# Altium integrated library Diode.IntLib: 65 symbols
Pins are listed as number, name and electrical type; pins without a type are passive.

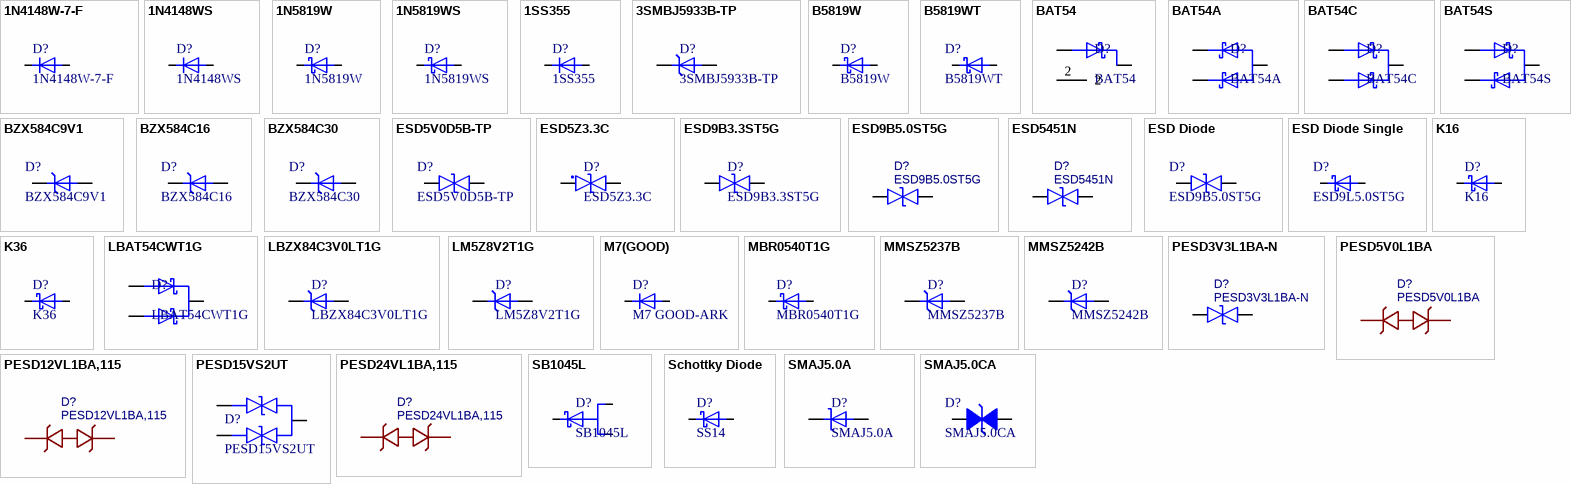
[diagram p0: symbols 1N4148W-7-F to SMAJ5.0CA]

## 1N4148W-7-F
designator D?
开关二极管
footprint D_SOD-123 (Molded Diode, 2-Leads, Body 3.71x1.60mm, IPC Medium Density)
pins: 1 K, 2 A

## 1N4148WS
designator D?
开关二极管 100V 150mA 1.25V@150mA T4
footprint D_SOD-323 (Molded Diode, 2-Leads, Body 2.65x1.30mm, IPC Medium Density)
footprint Model Name (Model Description)
footprint Model Name (Model Description)
footprint Model Name (Model Description)
pins: 1 K, 2 A

## 1N5819W
designator D?
肖特基二极管  40V 1A 900mV@3A
footprint D_SOD-123 (Molded Diode, 2-Leads, Body 3.71x1.60mm, IPC Medium Density)
pins: 1 K, 2 A

## 1N5819WS
designator D?
肖特基二极管  40V 1A 600mV@1A
footprint D_SOD-323 (Molded Diode, 2-Leads, Body 2.65x1.30mm, IPC Medium Density)
pins: 1 K, 2 A

## 1SS355
designator D?
开关二极管 80V 100mA 4ns
footprint D_SOD-323 (Molded Diode, 2-Leads, Body 2.65x1.30mm, IPC Medium Density)
pins: 1 K, 2 A

## 3SMBJ5933B-TP
designator D?
稳压二极管 22V，3W
footprint D_SMB/DO-214AA (Molded Diode, 2-Leads, Body 4.31x3.62mm, IPC Medium Density)
pins: 1 K, 2 A

## B5819W
designator D?
肖特基二极管
footprint D_SOD-123 (Molded Diode, 2-Leads, Body 3.71x1.60mm, IPC Medium Density)
pins: 1 K, 2 A

## B5819WT
designator D?
40V 1A 600mV@200mA
footprint D_SOD-523 (SODFL, 2-Leads, Body 0.80x1.60mm, IPC Medium Density)
pins: 1 K, 2 A

## BAT54
designator D?
Surface Mount Schottky Barrier Diode
footprint SOT-23 (SOT23, 3-Leads, Body 2.90x2.45mm, Pitch 0.95mm, IPC Medium Density)
pins: 1, 2, 3

## BAT54A
designator D?
Surface Mount Schottky Barrier Diode
footprint SOT-23 (SOT23, 3-Leads, Body 2.90x2.45mm, Pitch 0.95mm, IPC Medium Density)
pins: 1, 2, 3

## BAT54C
designator D?
Surface Mount Schottky Barrier Diode
footprint SOT-23 (SOT23, 3-Leads, Body 2.90x2.45mm, Pitch 0.95mm, IPC Medium Density)
pins: 1, 2, 3

## BAT54S
designator D?
Surface Mount Schottky Barrier Diode
footprint SOT-23 (SOT23, 3-Leads, Body 2.90x2.45mm, Pitch 0.95mm, IPC Medium Density)
pins: 1, 2, 3

## BZX584C9V1
designator D?
齐纳二极管 9.1V 200mW
footprint D_SOD-523 (SODFL, 2-Leads, Body 0.80x1.60mm, IPC Medium Density)
pins: 1 K, 2 A

## BZX584C16
designator D?
齐纳二极管 16V 200mW
footprint D_SOD-523 (SODFL, 2-Leads, Body 0.80x1.60mm, IPC Medium Density)
pins: 1 K, 2 A

## BZX584C30
designator D?
齐纳二极管 30V 200mW
footprint D_SOD-523 (SODFL, 2-Leads, Body 0.80x1.60mm, IPC Medium Density)
pins: 1 K, 2 A

## ESD5V0D5B-TP
designator D?
ESD 5V
footprint D_SOD-523-BI (SODFL, 2-Leads, Body 0.80x1.60mm, IPC Medium Density)
pins: 1, 2

## ESD5Z3.3C
designator D?
双向ESD 3.3V
footprint D_SOD-523-BI (SODFL, 2-Leads, Body 0.80x1.60mm, IPC Medium Density)
pins: 1, 2

## ESD9B3.3ST5G
designator D?
双向ESD 3.3V
footprint D_SOD-923_L0.8-W0.6-LS1.0-BI
pins: 1, 2

## ESD9B5.0ST5G
designator D?
双向ESD 5.8V; BOM_Manufacturer: ON; Contributor: LCSC; BOM_Supplier: LCSC; BOM_Manufacturer Part: ESD9B5.0ST5G; BOM_Supplier Part: C111566; spicePre: D; spiceSymbolName: ESD9B5.0ST5G
footprint D_SOD-923_L0.8-W0.6-LS1.0-BI
pins: 1, 2

## ESD5451N
designator D?
双向TVS管PESD5V0S1BBN/PESD3V3S1BA-N; BOM_Manufacturer: ON; BOM_Manufacturer Part: ESD9B5.0ST5G; Contributor: LCSC; BOM_Supplier: LCSC; BOM_Supplier Part: C111566; spicePre: D; spiceSymbolName: ESD9B5.0ST5G
footprint DFN1006-2L-BI
pins: 1, 2

## ESD Diode
designator D?, comment ESD9B5.0ST5G
双向ESD二极管
footprint D_SOD-923_L0.8-W0.6-LS1.0-BI
footprint DFN1006-2L-BI
pins: 1, 2

## ESD Diode Single
designator D?, comment ESD9L5.0ST5G
单向ESD二极管
footprint D_SOD-923_L0.8-W0.6-LS1.0
footprint DFN1006-2L
pins: 1 K, 2 A

## K16
designator D?
肖特基二极管  60V 1A 700mV@1A
footprint D_SOD-123FL (Molded Diode, 2-Leads, Body 3.71x1.60mm, IPC Medium Density)
pins: 1 K, 2 A

## K36
designator D?
肖特基二极管  60V 3A 700mV@3A
footprint D_SOD-123FL (Molded Diode, 2-Leads, Body 3.71x1.60mm, IPC Medium Density)
pins: 1 K, 2 A

## LBAT54CWT1G
designator D?
footprint SC-70-3 (SOTFL, 3-Leads, Body 2.00x2.20mm, Pitch 0.65mm, IPC Medium Density)
pins: 1, 2, 3

## LBZX84C3V0LT1G
designator D?
稳压二极管 3V 稳压值(范围)：2.8V~3.2V 功率：225mW
footprint SOT-23 (SOT23, 3-Leads, Body 2.90x2.45mm, Pitch 0.95mm, IPC Medium Density)
pins: 1 A, 2 NC hidden, 3 K

## LM5Z8V2T1G
designator D?
稳压管 7.7V~8.7V 功率：200mW
footprint D_SOD-523 (SODFL, 2-Leads, Body 0.80x1.60mm, IPC Medium Density)
pins: 1 K, 2 A

## M7(GOOD)
designator D?, comment M7 GOOD-ARK
通用二极管  1000V,1A,VF=1V@1A
footprint D_SOD-123 (Molded Diode, 2-Leads, Body 3.71x1.60mm, IPC Medium Density)
footprint D_SMA (Molded Diode, 2-Leads, Body 5.00x2.60mm, IPC Medium Density)
pins: 1 K, 2 A

## MBR0540T1G
designator D?
肖特基二极管 40V,0.5A,VF=0.51V@0.5A
footprint D_SOD-123 (Molded Diode, 2-Leads, Body 3.71x1.60mm, IPC Medium Density)
pins: 1 K, 2 A

## MMSZ5237B
designator D?
稳压管 8.2V Zener Voltage Regulator Diodes
footprint D_SOD-123 (Molded Diode, 2-Leads, Body 3.71x1.60mm, IPC Medium Density)
pins: 1 K, 2 A

## MMSZ5242B
designator D?
稳压管 12V Zener Voltage Regulator Diodes
footprint D_SOD-123 (Molded Diode, 2-Leads, Body 3.71x1.60mm, IPC Medium Density)
pins: 1 K, 2 A

## PESD3V3L1BA-N
designator D?
双向ESD 3.3V; BOM_Manufacturer: ON; BOM_Manufacturer Part: ESD9B5.0ST5G; Contributor: LCSC; BOM_Supplier: LCSC; BOM_Supplier Part: C111566; spicePre: D; spiceSymbolName: ESD9B5.0ST5G
footprint D_SOD-323-BI (Molded Diode, 2-Leads, Body 2.65x1.30mm, IPC Medium Density)
pins: 1, 2

## PESD5V0L1BA
designator D?
5V ESD SOD323; BOM_Manufacturer: Nexperia; BOM_Manufacturer Part: PESD12VL1BA,115; BOM_Supplier: LCSC; BOM_Supplier Part: C38558; BOM_JLCPCB Part Class: Extended Part; spicePre: D; spiceSymbolName: PESD12VL1BA,115
footprint D_SOD-323-BI (Molded Diode, 2-Leads, Body 2.65x1.30mm, IPC Medium Density)
footprint D_SOD-323-BI (Molded Diode, 2-Leads, Body 2.65x1.30mm, IPC Medium Density)
footprint D_SOD-323-BI (Molded Diode, 2-Leads, Body 2.65x1.30mm, IPC Medium Density)
pins: 1 C, 2 A

## PESD12VL1BA,115
designator D?
BOM_Manufacturer: Nexperia; BOM_Supplier: LCSC; BOM_Manufacturer Part: PESD12VL1BA,115; BOM_Supplier Part: C38558; BOM_JLCPCB Part Class: Extended Part; spicePre: D; spiceSymbolName: PESD12VL1BA,115
footprint D_SOD-323-BI (Molded Diode, 2-Leads, Body 2.65x1.30mm, IPC Medium Density)
pins: 1 C, 2 A

## PESD15VS2UT
designator D?
footprint SOT-23 (SOT23, 3-Leads, Body 2.90x2.45mm, Pitch 0.95mm, IPC Medium Density)
pins: 1, 2, 3

## PESD24VL1BA,115
designator D?
BOM_Manufacturer: Nexperia; Contributor: LCSC; BOM_Supplier: LCSC; BOM_Manufacturer Part: PESD24VL1BA,115; BOM_Supplier Part: C69324; BOM_JLCPCB Part Class: Extended Part; spicePre: D; spiceSymbolName: PESD24VL1BA,115
footprint D_SOD-323-BI (Molded Diode, 2-Leads, Body 2.65x1.30mm, IPC Medium Density)
pins: 1 C, 2 A

## SB1045L
designator D?
肖特基二极管  45V 10A 530mV@10A
footprint TO-277_3P-L5.4-W4.0-LS6.5-TR
pins: 1 A, 2 K, 3 A

## Schottky Diode
designator D?, comment SS14
肖特基二极管
pins: 1 K, 2 A

## SMAJ5.0A
designator D?
SMAJ5.0A  TVS
footprint D_SMA (Molded Diode, 2-Leads, Body 5.00x2.60mm, IPC Medium Density)
pins: 1 K, 2 A

## SMAJ5.0CA
designator D?
SMAJ5.0CA  TVS
footprint D_SMA (Molded Diode, 2-Leads, Body 5.00x2.60mm, IPC Medium Density)
pins: 1, 2

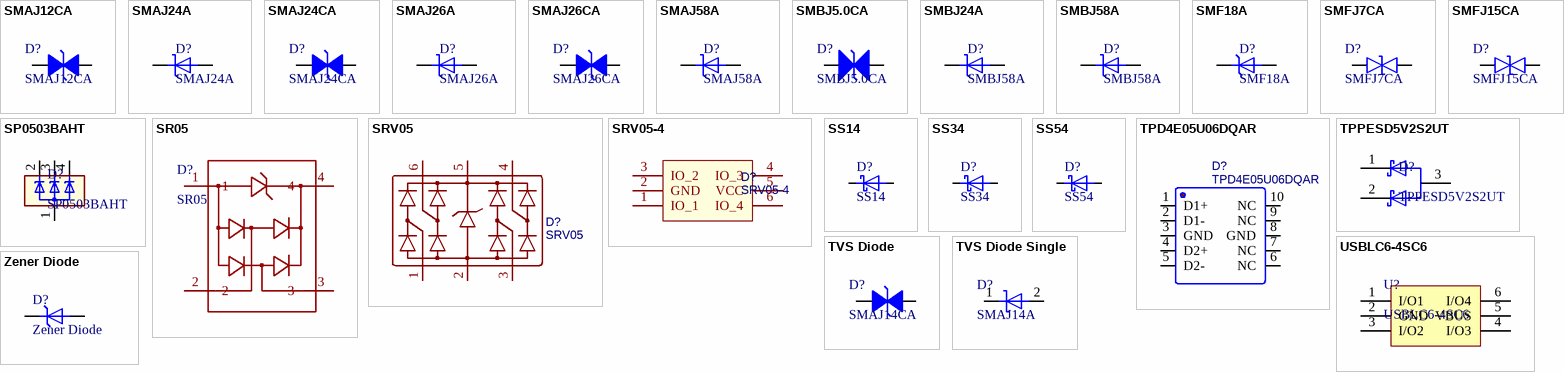
[diagram p1: symbols SMAJ12CA to Zener Diode]

## SMAJ12CA
designator D?
SMAJ12CA  TVS
footprint D_SMA (Molded Diode, 2-Leads, Body 5.00x2.60mm, IPC Medium Density)
pins: 1, 2

## SMAJ24A
designator D?
Surface mount TVS power 400 watts Stand-Off Voltage： 24V
footprint D_SMA (Molded Diode, 2-Leads, Body 5.00x2.60mm, IPC Medium Density)
pins: 1 K, 2 A

## SMAJ24CA
designator D?
SMAJ24CA  TVS
footprint D_SMA (Molded Diode, 2-Leads, Body 5.00x2.60mm, IPC Medium Density)
pins: 1, 2

## SMAJ26A
designator D?
Surface mount TVS power 400 watts Stand-Off Voltage： 26V
footprint D_SMA (Molded Diode, 2-Leads, Body 5.00x2.60mm, IPC Medium Density)
pins: 1 K, 2 A

## SMAJ26CA
designator D?
SMAJ26CA  TVS
footprint D_SMA (Molded Diode, 2-Leads, Body 5.00x2.60mm, IPC Medium Density)
pins: 1, 2

## SMAJ58A
designator D?
Surface mount TVS power 400 watts Stand-Off Voltage： 58V
footprint D_SMA (Molded Diode, 2-Leads, Body 5.00x2.60mm, IPC Medium Density)
pins: 1 K, 2 A

## SMBJ5.0CA
designator D?
SMBJ5.0CA  TVS
footprint D_SMB/DO-214AA (Molded Diode, 2-Leads, Body 4.31x3.62mm, IPC Medium Density)
pins: 1, 2

## SMBJ24A
designator D?, comment SMBJ58A
Surface mount TVS  Stand-Off Voltage：  24V
footprint D_SMB/DO-214AA (Molded Diode, 2-Leads, Body 4.31x3.62mm, IPC Medium Density)
pins: 1 K, 2 A

## SMBJ58A
designator D?
Surface mount TVS  Stand-Off Voltage： 58V
footprint D_SMB/DO-214AA (Molded Diode, 2-Leads, Body 4.31x3.62mm, IPC Medium Density)
pins: 1 K, 2 A

## SMF18A
designator D?
Surface mount TVS power 200 watts Stand-Off Voltage： 18V
footprint D_SOD-123FL (Molded Diode, 2-Leads, Body 3.71x1.60mm, IPC Medium Density)
pins: 1 K, 2 A

## SMFJ7CA
designator D?
footprint SOD-123S_L2.8-W1.8-LS3.7-BI
pins: 1, 2

## SMFJ15CA
designator D?
footprint SOD-123S_L2.8-W1.8-LS3.7-BI
pins: 1, 2

## SP0503BAHT
designator D?
TVS Diode Array, 5.5V Standoff, 3 Channels, SOT-143 package
footprint SOT-143 (SOT143, 4-Leads, Body 2.92x2.37mm, Pitch 1.90mm, IPC Medium Density)
pins: 1, 2, 3, 4

## SR05
designator D?
TVS 5V  USB
footprint SOT-143 (SOT143, 4-Leads, Body 2.90x2.37mm, Pitch 1.90mm, IPC Medium Density)
pins: 1, 2, 3, 4

## SRV05
designator D?
TVS; BOM_Manufacturer: TECH PUBLIC(台舟电子); BOM_Manufacturer Part: SRV05-4; Contributor: LCSC; BOM_Supplier: LCSC; BOM_Supplier Part: C558418; BOM_JLCPCB Part Class: Extended Part; spicePre: D; spiceSymbolName: SRV05-4_C558418
footprint SOT-23-6 (SOT23, 6-Leads, Body 2.90x2.80mm, Pitch 0.95mm, IPC Medium Density)
pins: 1, 2, 3, 4, 5, 6

## SRV05-4
designator D?
TVS; BOM_Manufacturer: TECH PUBLIC(台舟电子); Contributor: LCSC; BOM_Supplier: LCSC; BOM_Supplier Part: C558418; BOM_Manufacturer Part: SRV05-4; BOM_JLCPCB Part Class: Extended Part; spicePre: D; spiceSymbolName: SRV05-4_C558418
footprint SOT-23-6 (SOT23, 6-Leads, Body 2.90x2.80mm, Pitch 0.95mm, IPC Medium Density)
pins: 1 IO_1, 2 GND, 3 IO_2, 4 IO_3, 5 VCC, 6 IO_4

## SS14
designator D?
肖特基二极管 1A
footprint D_SMA (Molded Diode, 2-Leads, Body 5.00x2.60mm, IPC Medium Density)
pins: 1 K, 2 A

## SS34
designator D?
肖特基二极管 3A
footprint D_SMA (Molded Diode, 2-Leads, Body 5.00x2.60mm, IPC Medium Density)
footprint D_SMB/DO-214AA (Molded Diode, 2-Leads, Body 4.31x3.62mm, IPC Medium Density)
footprint D_SOD-123FL (Molded Diode, 2-Leads, Body 3.71x1.60mm, IPC Medium Density)
pins: 1 K, 2 A

## SS54
designator D?
肖特基二极管 5A
footprint D_SMA (Molded Diode, 2-Leads, Body 5.00x2.60mm, IPC Medium Density)
footprint D_SMB/DO-214AA (Molded Diode, 2-Leads, Body 4.31x3.62mm, IPC Medium Density)
footprint D_SOD-123FL (Molded Diode, 2-Leads, Body 3.71x1.60mm, IPC Medium Density)
pins: 1 K, 2 A

## TPD4E05U06DQAR
designator D?
适用于 USB、HDMI 和高速接口的四路 0.5pF、5.5V、±12kV ESD 保护二极管; BOM_Manufacturer: TI; Contributor: LCSC; BOM_Supplier: LCSC; BOM_Manufacturer Part: TPD4E05U06DQAR; BOM_Supplier Part: C138714; spicePre: D; spiceSymbolName: TPD4E05U06DQAR_C138714
footprint D_USON-10_L2.5-W1.0-P0.50-BL
pins: 1 D1+, 2 D1-, 3 GND, 4 D2+, 5 D2-, 6 NC, 7 NC, 8 GND, 9 NC, 10 NC

## TPPESD5V2S2UT
designator D?
TVS Diode Array
footprint SOT-23 (SOT23, 3-Leads, Body 2.90x2.45mm, Pitch 0.95mm, IPC Medium Density)
pins: 1, 2, 3

## TVS Diode
designator D?, comment SMAJ14CA
TVS静电和浪涌保护二极管
footprint D_SMB/DO-214AA - BI (Molded Diode, 2-Leads, Body 4.31x3.62mm, IPC Medium Density)
footprint D_SMA - BI (Molded Diode, 2-Leads, Body 5.00x2.60mm, IPC Medium Density)
footprint D_SMC_L6.9-W5.9-LS7.9-BI
pins: 1, 2

## TVS Diode Single
designator D?, comment SMAJ14A
单向TVS静电和浪涌保护二极管
footprint D_SMA (Molded Diode, 2-Leads, Body 5.00x2.60mm, IPC Medium Density)
footprint D_SMB/DO-214AA (Molded Diode, 2-Leads, Body 4.31x3.62mm, IPC Medium Density)
footprint D_SMC_L6.9-W5.9-LS7.9-RD
pins: 1 K, 2 A

## USBLC6-4SC6
designator U?
footprint SOT-23-6 (SOT23, 6-Leads, Body 2.90x2.80mm, Pitch 0.95mm, IPC Medium Density)
pins: 1 I/O1, 2 GND, 3 I/O2, 4 I/O3, 5 VBUS, 6 I/O4

## Zener Diode
designator D?
稳压二极管
footprint D_SOD-123 (Molded Diode, 2-Leads, Body 3.71x1.60mm, IPC Medium Density)
footprint D_SOD-123FL (Molded Diode, 2-Leads, Body 3.71x1.60mm, IPC Medium Density)
footprint D_SMA (Molded Diode, 2-Leads, Body 5.00x2.60mm, IPC Medium Density)
footprint D_SMB/DO-214AA (Molded Diode, 2-Leads, Body 4.31x3.62mm, IPC Medium Density)
footprint D_LL_34 (Molded Diode, 2-Leads, Body 3.71x1.60mm, IPC Medium Density)
footprint D_SOD-523 (SODFL, 2-Leads, Body 0.80x1.60mm, IPC Medium Density)
pins: 1 K, 2 A